# Altium footprint library Vishay Draloric Ceramic Disc Capacitor.PcbLib: 220 footprints (part 11 of 14)
Each footprint in its own frame and in the unit in brackets; x right, y up, seen from the top. Pads: shape width x height; smd on the part's side, far side on the other; paste and mask are expansions set on the pad; w line width, h text height; cw(c..) or ccw(c..) is an arc to the next point about the centre after c.
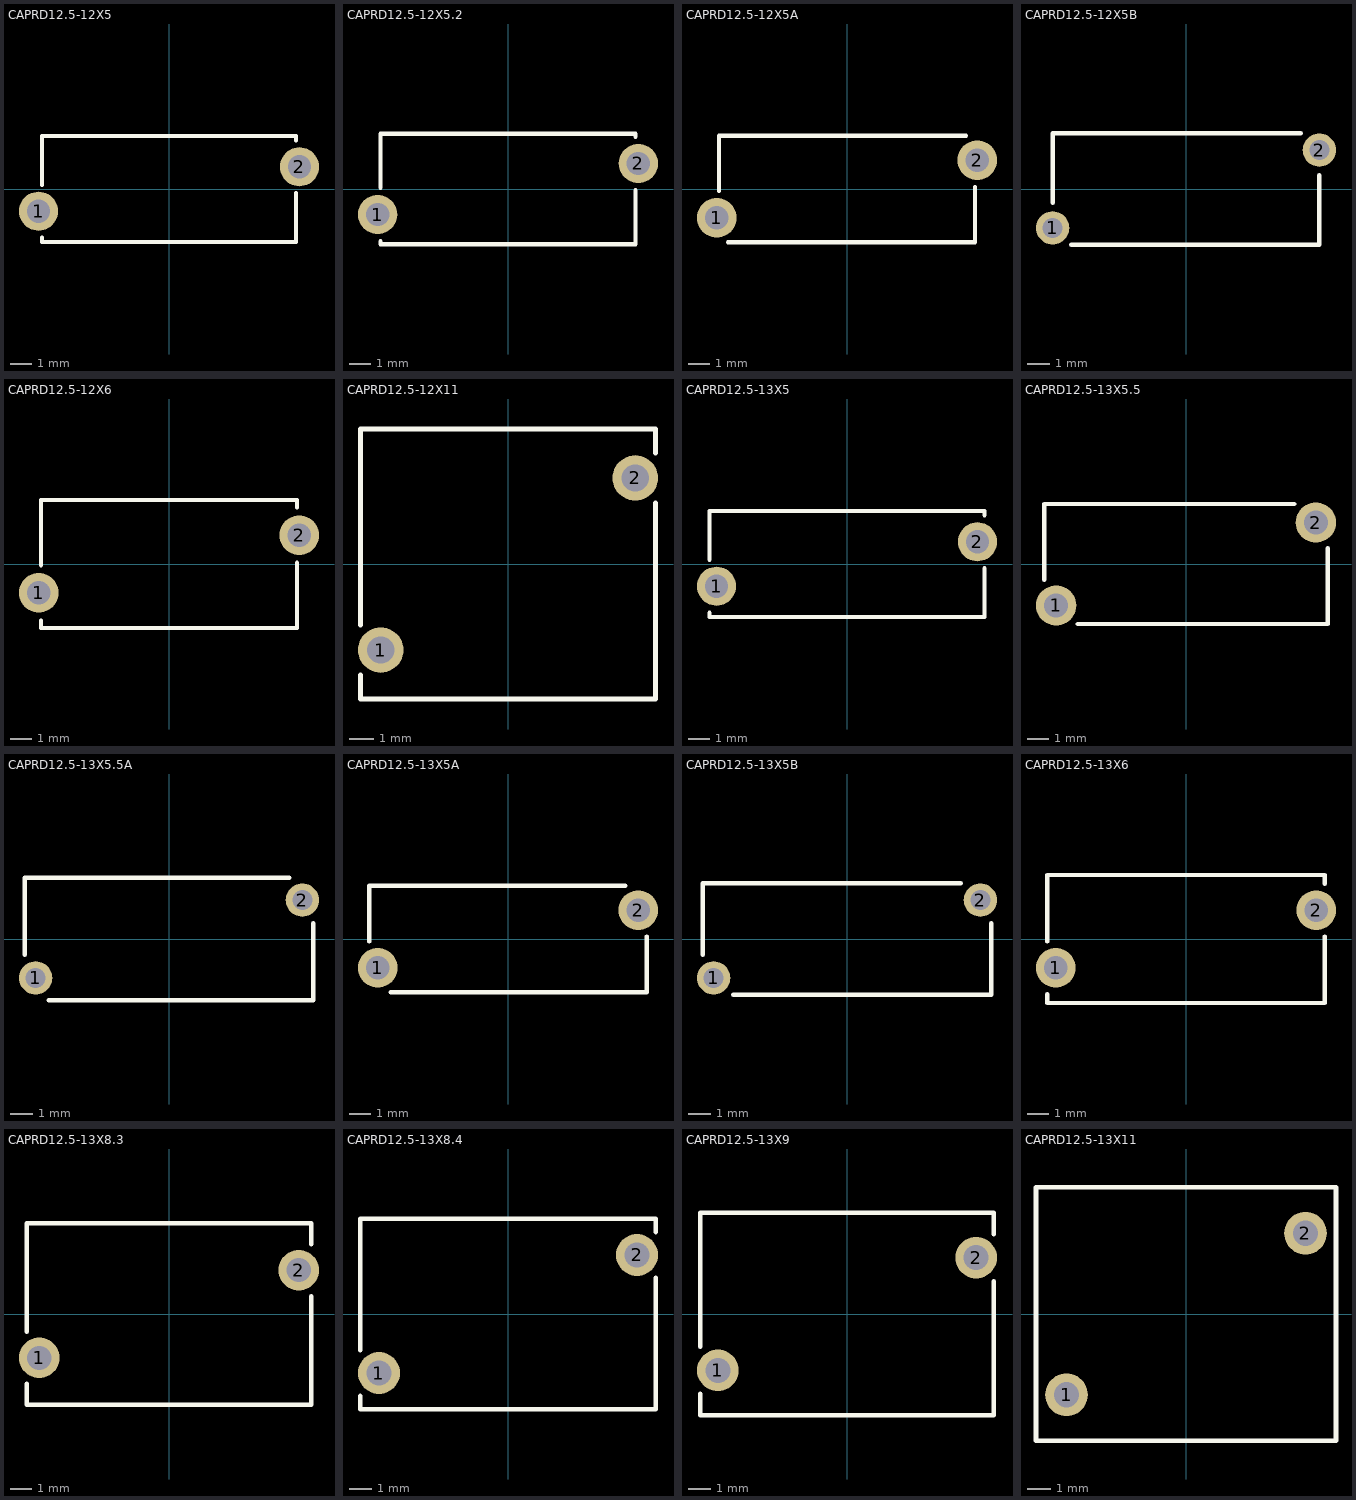
[diagram p10: the footprints below, top view; thin cyan lines are the x and y axes]

## CAPRD12.5-12X5 [mm] "Capacitor, Ceramic, Thru-Hole, Disc; Body 12 x 5 mm (LxW max) Pin Spacing 12.5 mm (typ)"
height 15
pads (2):
  round 1.85 hole 1.1: 1(-6.161,-1.05) 2(6.161,1.05)
Top Overlay:
  lines w0.2: -6,-2.295 -6,-2.5 6,-2.5 6,-0.195 ; -6,0.195 -6,2.5 6,2.5 6,2.295

## CAPRD12.5-12X5.2 [mm] "Capacitor, Ceramic, Thru-Hole, Disc; Body 12 x 5.2 mm (LxW max) Pin Spacing 12.5 mm (typ)"
height 15
pads (2):
  round 1.85 hole 1.1: 1(-6.134,-1.2) 2(6.134,1.2)
Top Overlay:
  lines w0.2: -6,-2.46 -6,-2.6 6,-2.6 6,-0.06 ; -6,0.06 -6,2.6 6,2.6 6,2.46

## CAPRD12.5-12X5A [mm] "Capacitor, Ceramic, Thru-Hole, Disc; Body 12 x 5 mm (LxW max) Pin Spacing 12.5 mm (typ)"
height 15
pads (2):
  round 1.85 hole 1.1: 1(-6.102,-1.35) 2(6.102,1.35)
Top Overlay:
  lines w0.2: -6,-0.09 -6,2.5 5.577,2.5 ; -5.577,-2.5 6,-2.5 6,0.09

## CAPRD12.5-12X5B [mm] "Capacitor, Ceramic, Thru-Hole, Disc; Body 12 x 5 mm (LxW max) Pin Spacing 12.5 mm (typ)"
height 15
pads (2):
  round 1.5 hole 0.9: 1(-6,-1.75) 2(6,1.75)
Top Overlay:
  lines w0.2: -6,-0.62 -6,2.5 5.154,2.5 ; -5.154,-2.5 6,-2.5 6,0.62

## CAPRD12.5-12X6 [mm] "Capacitor, Ceramic, Thru-Hole, Disc; Body 12 x 6 mm (LxW max) Pin Spacing 12.5 mm (typ)"
height 15
pads (2):
  round 1.85 hole 1.1: 1(-6.102,-1.35) 2(6.102,1.35)
Top Overlay:
  lines w0.2: -6,-2.646 -6,-3 6,-3 6,0.054 ; -6,-0.054 -6,3 6,3 6,2.646

## CAPRD12.5-12X11 [mm] "Capacitor, Ceramic, Thru-Hole, Disc; Body 12 x 11 mm (LxW max) Pin Spacing 12.5 mm (typ)"
height 17
pads (2):
  round 1.85 hole 1.1: 1(-5.178,-3.5) 2(5.178,3.5)
Top Overlay:
  lines w0.2: -6,-4.51 -6,-5.5 6,-5.5 6,2.49 ; -6,-2.49 -6,5.5 6,5.5 6,4.51

## CAPRD12.5-13X5 [mm] "Capacitor, Ceramic, Thru-Hole, Disc; Body 13 x 5 mm (LxW max) Pin Spacing 12.5 mm (typ)"
height 16
pads (2):
  round 1.85 hole 1.1: 1(-6.161,-1.05) 2(6.161,1.05)
Top Overlay:
  lines w0.2: -6.5,-2.306 -6.5,-2.5 6.5,-2.5 6.5,-0.206 ; -6.5,0.206 -6.5,2.5 6.5,2.5 6.5,2.306

## CAPRD12.5-13X5.5 [mm] "Capacitor, Ceramic, Thru-Hole, Disc; Body 13 x 5.5 mm (LxW max) Pin Spacing 12.5 mm (typ)"
height 16
pads (2):
  round 1.85 hole 1.1: 1(-5.954,-1.9) 2(5.954,1.9)
Top Overlay:
  lines w0.2: -6.5,-0.72 -6.5,2.75 4.97,2.75 ; -4.97,-2.75 6.5,-2.75 6.5,0.72

## CAPRD12.5-13X5.5A [mm] "Capacitor, Ceramic, Thru-Hole, Disc; Body 13 x 5.5 mm (LxW max) Pin Spacing 12.5 mm (typ)"
height 16
pads (2):
  round 1.5 hole 0.9: 1(-6,-1.75) 2(6,1.75)
Top Overlay:
  lines w0.2: -6.5,-0.702 -6.5,2.75 5.41,2.75 ; -5.41,-2.75 6.5,-2.75 6.5,0.702

## CAPRD12.5-13X5A [mm] "Capacitor, Ceramic, Thru-Hole, Disc; Body 13 x 5 mm (LxW max) Pin Spacing 12.5 mm (typ)"
height 16
pads (2):
  round 1.85 hole 1.1: 1(-6.102,-1.35) 2(6.102,1.35)
Top Overlay:
  lines w0.2: -6.5,-0.112 -6.5,2.5 5.496,2.5 ; -5.496,-2.5 6.5,-2.5 6.5,0.112

## CAPRD12.5-13X5B [mm] "Capacitor, Ceramic, Thru-Hole, Disc; Body 13 x 5 mm (LxW max) Pin Spacing 12.5 mm (typ)"
height 16
pads (2):
  round 1.5 hole 0.9: 1(-6,-1.75) 2(6,1.75)
Top Overlay:
  lines w0.2: -6.5,-0.699 -6.5,2.5 5.11,2.5 ; -5.11,-2.5 6.5,-2.5 6.5,0.699

## CAPRD12.5-13X6 [mm] "Capacitor, Ceramic, Thru-Hole, Disc; Body 13 x 6 mm (LxW max) Pin Spacing 12.5 mm (typ)"
height 16
pads (2):
  round 1.85 hole 1.1: 1(-6.102,-1.35) 2(6.102,1.35)
Top Overlay:
  lines w0.2: -6.5,-2.588 -6.5,-3 6.5,-3 6.5,0.112 ; -6.5,-0.112 -6.5,3 6.5,3 6.5,2.588

## CAPRD12.5-13X8.3 [mm] "Capacitor, Ceramic, Thru-Hole, Disc; Body 13 x 8.3 mm (LxW max) Pin Spacing 12.5 mm (typ)"
height 16
pads (2):
  round 1.85 hole 1.1: 1(-5.921,-2) 2(5.921,2)
Top Overlay:
  lines w0.2: -6.5,-3.186 -6.5,-4.15 6.5,-4.15 6.5,0.814 ; -6.5,-0.814 -6.5,4.15 6.5,4.15 6.5,3.186

## CAPRD12.5-13X8.4 [mm] "Capacitor, Ceramic, Thru-Hole, Disc; Body 13 x 8.4 mm (LxW max) Pin Spacing 12.5 mm (typ)"
height 16
pads (2):
  round 1.85 hole 1.1: 1(-5.684,-2.6) 2(5.684,2.6)
Top Overlay:
  lines w0.2: -6.5,-3.612 -6.5,-4.2 6.5,-4.2 6.5,1.588 ; -6.5,-1.588 -6.5,4.2 6.5,4.2 6.5,3.612

## CAPRD12.5-13X9 [mm] "Capacitor, Ceramic, Thru-Hole, Disc; Body 13 x 9 mm (LxW max) Pin Spacing 12.5 mm (typ)"
height 18
pads (2):
  round 1.85 hole 1.1: 1(-5.728,-2.5) 2(5.728,2.5)
Top Overlay:
  lines w0.2: -6.5,-3.547 -6.5,-4.5 6.5,-4.5 6.5,1.453 ; -6.5,-1.453 -6.5,4.5 6.5,4.5 6.5,3.547

## CAPRD12.5-13X11 [mm] "Capacitor, Ceramic, Thru-Hole, Disc; Body 13 x 11 mm (LxW max) Pin Spacing 12.5 mm (typ)"
height 18
pads (2):
  round 1.85 hole 1.1: 1(-5.178,-3.5) 2(5.178,3.5)
Top Overlay:
  lines w0.2: -6.5,-5.5 6.5,-5.5 6.5,5.5 -6.5,5.5 -6.5,-5.5